# EAGLE library part PLTB_7P_5MM (library CNNT)
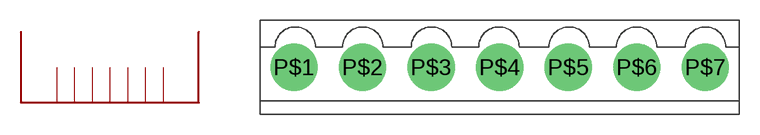
[diagram p0: symbol with the pads of PBLT_7P_5.08MM; footprint PBLT_7P_5.08MM]

Designator prefix -

## PLTB_7P_5MM  [PBLT_7P_5.08MM]
P$1  P$1
P$2  P$2
P$3  P$3
P$4  P$4
P$5  P$5
P$6  P$6
P$7  P$7

## Footprint PBLT_7P_5.08MM (pad centres in mm)
drill 1.6 pad 3.5: P$1 2.51,3.5; P$2 7.59,3.5; P$3 12.67,3.5; P$4 17.75,3.5; P$5 22.83,3.5; P$6 27.91,3.5; P$7 32.99,3.5